# EAGLE library part ALTIMETER_V5 (library QADT)
Adafruit Altimeter MPL3115A2
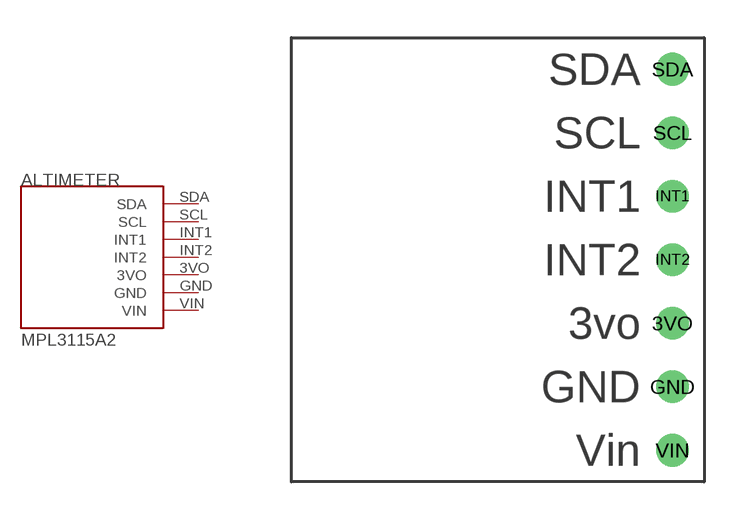
[diagram p8: symbol with the pads of ALTIMETER_V5; footprint ALTIMETER_V5]

Designator prefix -

## ALTIMETER_V5  [ALTIMETER_V5]
3VO  3VO
GND  GND
INT1  INT1
INT2  INT2
SCL  SCL
SDA  SDA
VIN  VIN

## Footprint ALTIMETER_V5 (pad centres in mm)
Eagle Tree Altimeter V4
drill 0.8: 3VO 0,-5.08; GND 0,-7.62; INT1 0,0; INT2 0,-2.54; SCL 0,2.54; SDA 0,5.08; VIN 0,-10.16